# Altium footprint library CN_HM_B25_125P_243-21020-15.PcbLib: 1 footprints
Each footprint in its own frame and in the unit in brackets; x right, y up, seen from the top. Pads: shape width x height; smd on the part's side, far side on the other; paste and mask are expansions set on the pad; w line width, h text height; cw(c..) or ccw(c..) is an arc to the next point about the centre after c.
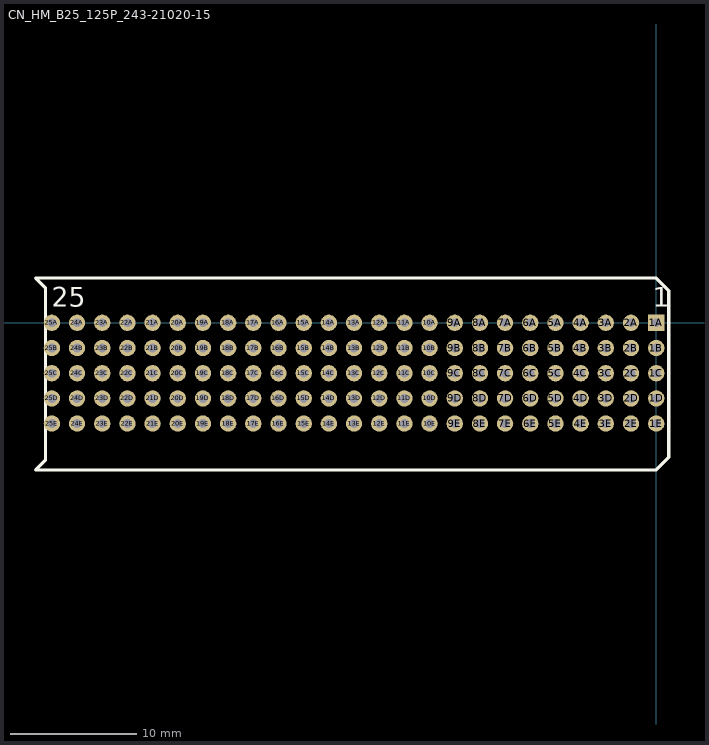
[diagram p0: the footprint, top view; thin cyan lines are the x and y axes]

## CN_HM_B25_125P_243-21020-15 [mm] "EPT - 243-21020-15 - HM 2.0 M TYPE B25 125P.II PDNI"
pads (125):
  rect 1.3x1.3 hole 0.7: 1A(0,0)
  round 1.3 hole 0.7: 1B(0,-2) 1C(0,-4) 1D(0,-6) 1E(0,-8) 2A(-2,0) 2B(-2,-2) 2C(-2,-4) 2D(-2,-6) 2E(-2,-8) 3A(-4,0) 3B(-4,-2) 3C(-4,-4) 3D(-4,-6) 3E(-4,-8) 4A(-6,0) 4B(-6,-2) 4C(-6,-4) 4D(-6,-6) 4E(-6,-8) 5A(-8,0) 5B(-8,-2) 5C(-8,-4) 5D(-8,-6) 5E(-8,-8) 6A(-10,0) 6B(-10,-2) 6C(-10,-4) 6D(-10,-6) 6E(-10,-8) 7A(-12,0) 7B(-12,-2) 7C(-12,-4) 7D(-12,-6) 7E(-12,-8) 8A(-14,0) 8B(-14,-2) 8C(-14,-4) 8D(-14,-6) 8E(-14,-8) 9A(-16,0) 9B(-16,-2) 9C(-16,-4) 9D(-16,-6) 9E(-16,-8) 10A(-18,0) 10B(-18,-2) 10C(-18,-4) 10D(-18,-6) 10E(-18,-8) 11A(-20,0) 11B(-20,-2) 11C(-20,-4) 11D(-20,-6) 11E(-20,-8) 12A(-22,0) 12B(-22,-2) 12C(-22,-4) 12D(-22,-6) 12E(-22,-8) 13A(-24,0) 13B(-24,-2) 13C(-24,-4) 13D(-24,-6) 13E(-24,-8) 14A(-26,0) 14B(-26,-2) 14C(-26,-4) 14D(-26,-6) 14E(-26,-8) 15A(-28,0) 15B(-28,-2) 15C(-28,-4) 15D(-28,-6) 15E(-28,-8) 16A(-30,0) 16B(-30,-2) 16C(-30,-4) 16D(-30,-6) 16E(-30,-8) 17A(-32,0) 17B(-32,-2) 17C(-32,-4) 17D(-32,-6) 17E(-32,-8) 18A(-34,0) 18B(-34,-2) 18C(-34,-4) 18D(-34,-6) 18E(-34,-8) 19A(-36,0) 19B(-36,-2) 19C(-36,-4) 19D(-36,-6) 19E(-36,-8) 20A(-38,0) 20B(-38,-2) 20C(-38,-4) 20D(-38,-6) 20E(-38,-8) 21A(-40,0) 21B(-40,-2) 21C(-40,-4) 21D(-40,-6) 21E(-40,-8) 22A(-42,0) 22B(-42,-2) 22C(-42,-4) 22D(-42,-6) 22E(-42,-8) 23A(-44,0) 23B(-44,-2) 23C(-44,-4) 23D(-44,-6) 23E(-44,-8) 24A(-46,0) 24B(-46,-2) 24C(-46,-4) 24D(-46,-6) 24E(-46,-8) 25A(-48,0) 25B(-48,-2) 25C(-48,-4) 25D(-48,-6) 25E(-48,-8)
Top Overlay:
  lines w0.254: -49.276,-11.684 0,-11.684 1,-10.684 1,2 1,2.556 0,3.556 -49.276,3.556 -48.514,2.794 -48.514,-10.922 -49.276,-11.684
  text "25" at -48.006,1.27 h1.52
  text "1" at -0.254,1.27 h1.52
3D body: height 13.4, standoff -3.7, extent -49.346,-11.686 1.004,3.714